# Altium integrated library MMBT3904-7-F.IntLib: 1 symbol
Pins are listed as number, name and electrical type; pins without a type are passive.

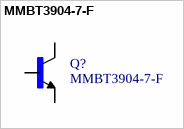
[diagram p0: symbol MMBT3904-7-F]

## MMBT3904-7-F
designator Q?
MMBT3904 Series NPN 40 V 300 mW Small Signal Transistor Surface Mount- SOT-23-3; MF: Diodes Inc.; Availability: Unavailable; Package: SOT-23 Diodes Inc.; SnapEDA_Link: https://www.snapeda.com/parts/MMBT3904-7-F/Diodes%20Inc./view-part/?ref=snap; Price: None; MP: MMBT3904-7-F; Value: *
footprint *SOT95P230X110-3N_MMBT3904-7-F(Primary)
pins: B, C, E